# EAGLE library part DUAL-OPTO_HCPL-073L (library SparkFun-DiscreteSemi)
HCPL-073L These high gain series couplers use a Light Emitting Diode and an integrated high gain photodetector to provide extremely high current transfer ratio between input and output. Separate pins for the photodiode and output stage result in LVTTL compatible saturation voltages and high speed operation. Where desired, the VCC and VO terminals may be tied together to achieve conventional photo-darlington operation. A base access terminal allows a gain bandwidth adjustment to be made. These optocouplers are for use in LVTTL/LVCMOS or other low power applications. A 400% minimum current transfer ratio is guaranteed over 0 to +70˚C operating range for only 0.5 mA of LED current. Digikey Link <https://www.digikey.com/product-detail/en/broadcom-limited/HCPL-073L-500E/516-4204-2-ND/1234512>
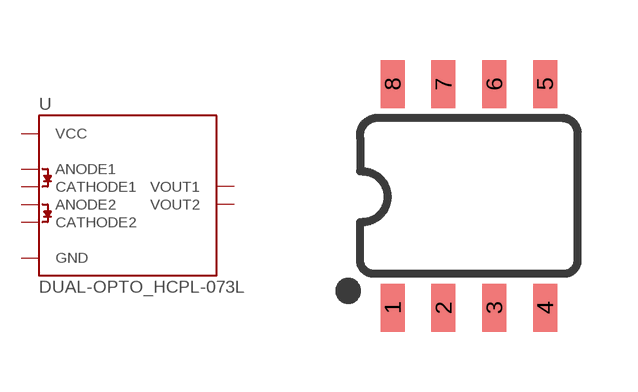
[diagram p4: symbol with the pads of SO08; footprint SO08]

Designator prefix U

## DUAL-OPTO_HCPL-073LSOIC-8 (PROD_ID: IC-15070)  [SO08]
1  ANODE1  in
2  CATHODE1  in
3  CATHODE2  in
4  ANODE2  in
5  GND  pwr
6  VOUT2  out
7  VOUT1  out
8  VCC  pwr

## Footprint SO08 (pad centres in mm)
SOIC, 0.15 inch width
smd 0.6 x 1.2: 1 -1.905,-2.8; 2 -0.635,-2.8; 3 0.635,-2.8; 4 1.905,-2.8; 5 1.905,2.8; 6 0.635,2.8; 7 -0.635,2.8; 8 -1.905,2.8